# EAGLE library part PSOC_QFN_DEVICE (library psoc_cy8c4245lqi-483)
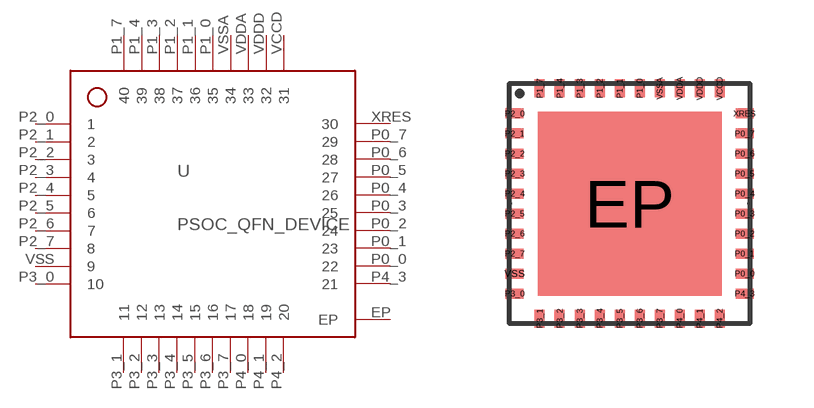
[diagram p0: symbol with the pads of PSOC_QFN_PACKEGE; footprint PSOC_QFN_PACKEGE]

Designator prefix -

## PSOC_QFN_DEVICE  [PSOC_QFN_PACKEGE]
EP  EP
P0_0  22
P0_1  23
P0_2  24
P0_3  25
P0_4  26
P0_5  27
P0_6  28
P0_7  29
P1_0  35
P1_1  36
P1_2  37
P1_3  38
P1_4  39
P1_7  40
P2_0  1
P2_1  2
P2_2  3
P2_3  4
P2_4  5
P2_5  6
P2_6  7
P2_7  8
P3_0  10
P3_1  11
P3_2  12
P3_3  13
P3_4  14
P3_5  15
P3_6  16
P3_7  17
P4_0  18
P4_1  19
P4_2  20
P4_3  21
VCCD  31
VDDA  33
VDDD  32
VSS  9
VSSA  34
XRES  30

## Footprint PSOC_QFN_PACKEGE (pad centres in mm)
smd 4.6 x 4.6: EP 0,0
smd 0.45 x 0.25: P0_0 2.875,-1.75; P0_1 2.875,-1.25; P0_2 2.875,-0.75; P0_3 2.875,-0.25; P0_4 2.875,0.25; P0_5 2.875,0.75; P0_6 2.875,1.25; P0_7 2.875,1.75; P2_0 -2.875,2.25; P2_1 -2.875,1.75; P2_2 -2.875,1.25; P2_3 -2.875,0.75; P2_4 -2.875,0.25; P2_5 -2.875,-0.25; P2_6 -2.875,-0.75; P2_7 -2.875,-1.25; P3_0 -2.875,-2.25; P4_3 2.875,-2.25; VSS -2.875,-1.75; XRES 2.875,2.25
smd 0.25 x 0.45: P1_0 0.25,2.875; P1_1 -0.25,2.875; P1_2 -0.75,2.875; P1_3 -1.25,2.875; P1_4 -1.75,2.875; P1_7 -2.25,2.875; P3_1 -2.25,-2.875; P3_2 -1.75,-2.875; P3_3 -1.25,-2.875; P3_4 -0.75,-2.875; P3_5 -0.25,-2.875; P3_6 0.25,-2.875; P3_7 0.75,-2.875; P4_0 1.25,-2.875; P4_1 1.75,-2.875; P4_2 2.25,-2.875; VCCD 2.25,2.875; VDDA 1.25,2.875; VDDD 1.75,2.875; VSSA 0.75,2.875